# Altium schematic symbol library picofusionH20.SchLib: 1 symbol
Pins are listed as number, name and electrical type; pins without a type are passive.

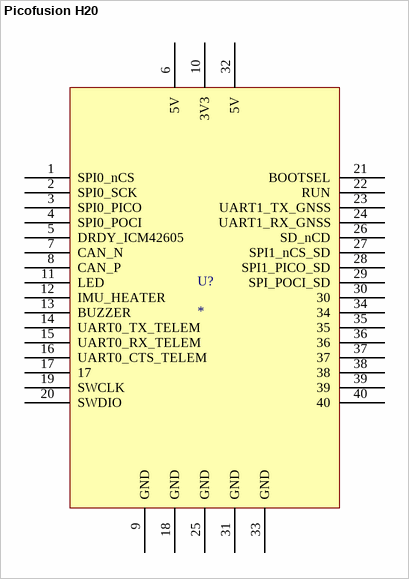
[diagram p0: symbol Picofusion H20]

## Picofusion H20
designator U?
footprint PicoFusion H Series
pins: 1 SPI0_nCS, 2 SPI0_SCK, 3 SPI0_PICO, 4 SPI0_POCI, 5 DRDY_ICM42605, 6 5V, 7 CAN_N, 8 CAN_P, 9 GND (power), 10 3V3, 11 LED, 12 IMU_HEATER, 13 BUZZER, 14 UART0_TX_TELEM, 15 UART0_RX_TELEM, 16 UART0_CTS_TELEM, 17, 18 GND (power), 19 SWCLK, 20 SWDIO, 21 BOOTSEL, 22 RUN, 23 UART1_TX_GNSS, 24 UART1_RX_GNSS, 25 GND (power), 26 SD_nCD, 27 SPI1_nCS_SD, 28 SPI1_PICO_SD, 29 SPI_POCI_SD, 30, 31 GND (power), 32 5V, 33 GND (power), 34, 35, 36, 37, 38, 39, 40